# Altium footprint library TC264.PcbLib: 48 footprints (part 3 of 3)
Each footprint in its own frame and in the unit in brackets; x right, y up, seen from the top. Pads: shape width x height; smd on the part's side, far side on the other; paste and mask are expansions set on the pad; w line width, h text height; cw(c..) or ccw(c..) is an arc to the next point about the centre after c.
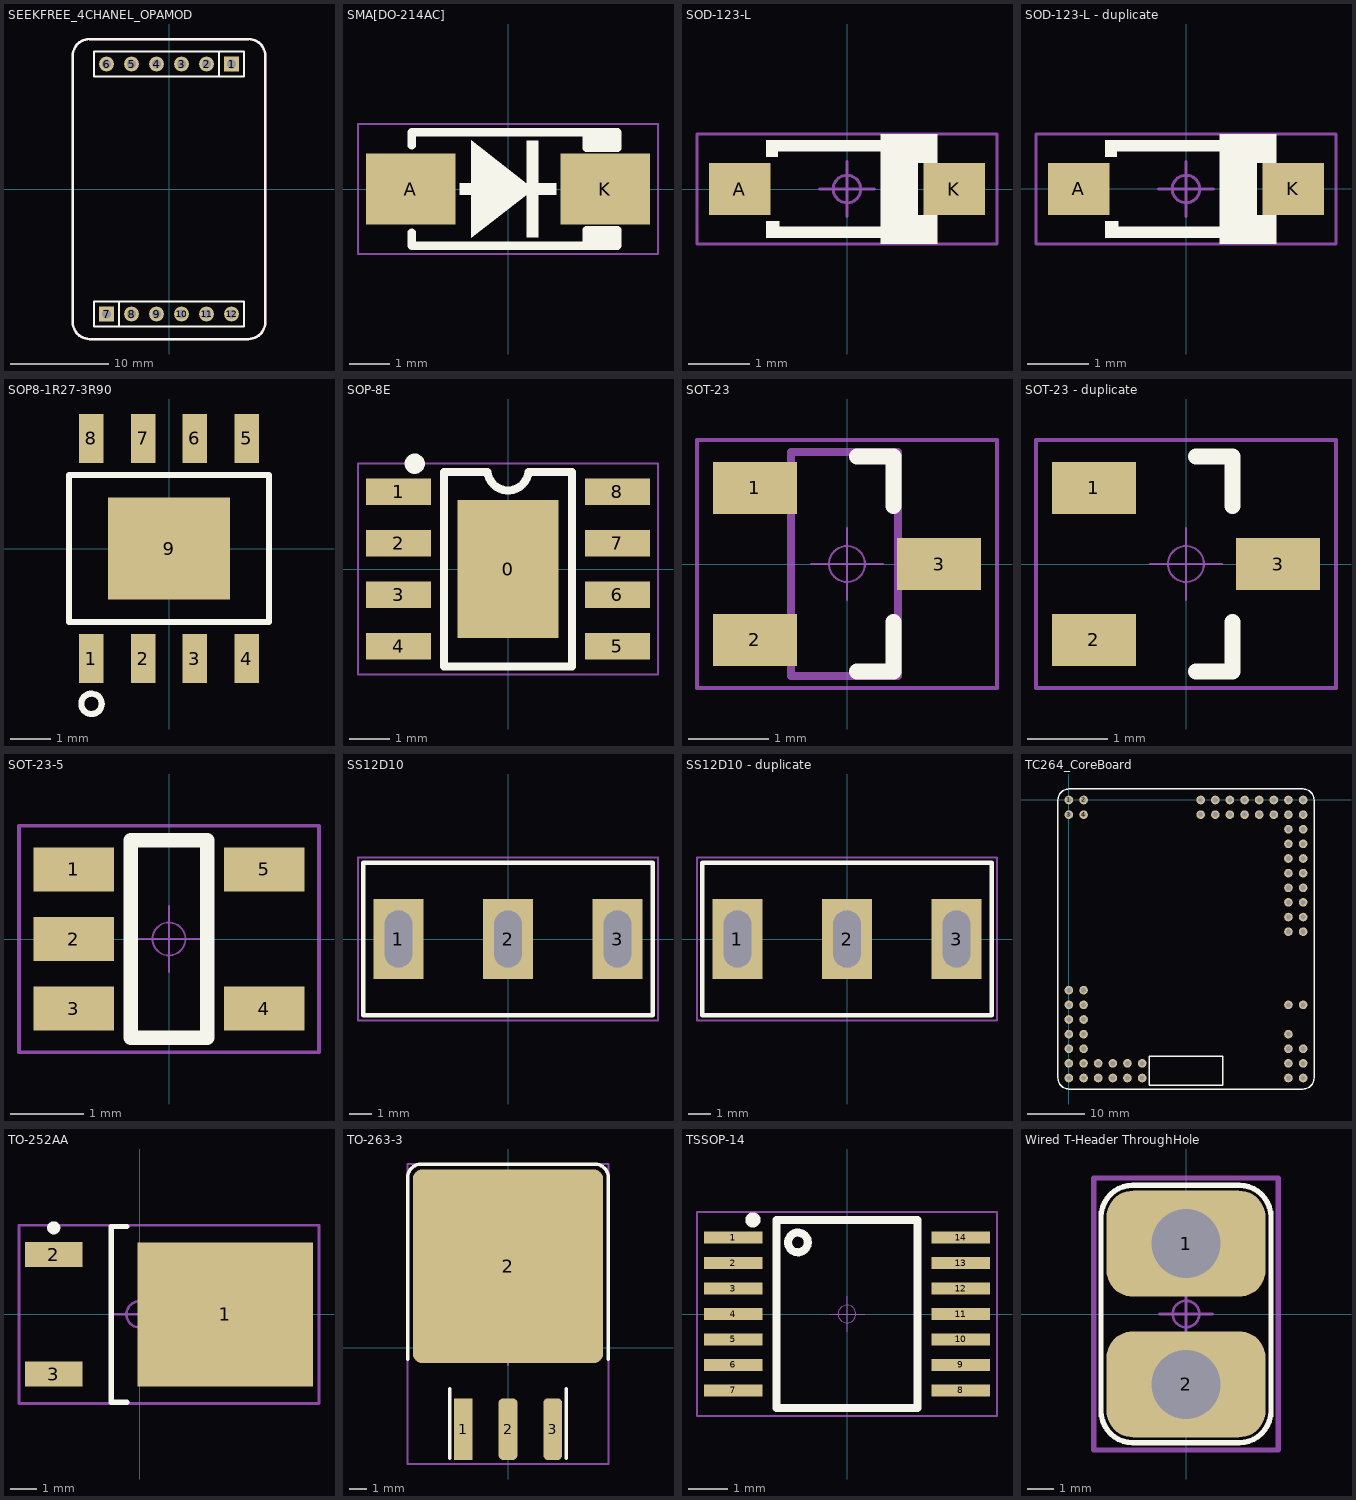
[diagram p2: the footprints below, top view; thin cyan lines are the x and y axes]

## SEEKFREE_4CHANEL_OPAMOD [mm]
pads (12):
  rect 1.5x1.5 hole 0.9: 1(6.35,12.7) 7(-6.35,-12.7)
  round 1.5 hole 0.9: 2(3.81,12.7) 3(1.27,12.7) 4(-1.27,12.7) 5(-3.81,12.7) 6(-6.35,12.7) 8(-3.81,-12.7) 9(-1.27,-12.7) 10(1.27,-12.7) 11(3.81,-12.7) 12(6.35,-12.7)
Top Overlay:
  lines w0.2: -5.1,-13.95 -5.1,-11.45 ; 5.1,11.45 5.1,13.95 ; -7.62,-13.97 -7.62,-11.43 7.62,-11.43 7.62,-13.97 -7.62,-13.97 ; -7.62,11.43 -7.62,13.97 7.62,13.97 7.62,11.43 -7.62,11.43
Top Overlay keep-out:
  lines w0.254: -9.779,-13.524 ccw(c-8.063,-13.524) -8.063,-15.24 8.063,-15.24 ccw(c8.063,-13.524) 9.779,-13.524 9.779,13.524 ccw(c8.063,13.524) 8.063,15.24 -8.063,15.24 ccw(c-8.063,13.524) -9.779,13.524 -9.779,-13.524
Top Designator:
  text ".Designator" at -2.253,12.474 h1
3D body "Female-Header-2.54-Single-6.stp": height 8.5, standoff -3.2, extent -7.743,11.475 7.747,13.975
3D body "Female-Header-2.54-Single-6.stp": height 8.5, standoff -3.2, extent -7.747,-13.975 7.743,-11.475
3D body "1001-6.STEP": height 8.54, standoff -3, extent -7.62,-13.97 7.62,-11.43
3D body "1001-6.STEP": height 8.54, standoff -3, extent -7.62,11.43 7.62,13.97

## SMA[DO-214AC] [mm] "Molded Diode, 2-Leads, Body 5.00x2.49mm, IPC Medium Density"
height 2.31
pads (2):
  rect 2.2x1.75 smd: A(-2.4,0) K(2.4,0)
Top Overlay:
  rectangle: -1.2,-0.149 1.2,0.151
  rectangle: 0.451,-1.2 0.751,1.2
  rectangle: 1.941,0.914 2.7,1.395
  rectangle: 1.941,-1.4 2.7,-0.914
  region: -0.902,1.2 -0.902,-1.2 0.635,0
  lines w0.2: -2.375,-1.075 -2.375,-1.4 2.7,-1.4 2.7,-1.016 ; -2.375,1.075 -2.375,1.4 2.7,1.4 2.7,1.016 ; 1.941,-1.395 1.941,-1.016 ; 1.941,1.016 1.941,1.395
Top Component Outline:
  lines w0.05: -3.7,-1.6 -3.7,1.6 3.7,1.6 3.7,-1.6 -3.7,-1.6
Top Designator:
  text ".Designator" at -2.253,-0.226 h1
Top Component Center:
  circle w0.05: c0,0 r0.225
  lines w0.05: -0.45,0 0.45,0 ; 0,-0.45 0,0.45
3D body "SMA(DO-214AC).STEP": height 2.3, standoff 0, extent -2.905,-1.46 2.905,1.46

## SOD-123-L [mm] "SOD Diode;2.70mm W X 1.60mm L X 1.35mm H body"
height 1.35
pads (2):
  rect 1x0.85 smd: A(-1.75,0) K(1.75,0)
Top Overlay:
  rectangle: 0.55,-0.8 1.16,0.8
  rectangle: 0.55,-0.9 1.475,-0.697
  rectangle: -1.143,0.612 0.584,0.8
  rectangle: 0.55,0.697 1.475,0.9
  rectangle: -1.143,-0.8 0.584,-0.612
  rectangle: 1.15,0.425 1.475,0.8
  rectangle: 1.15,-0.8 1.475,-0.425
  region: -1.1,-0.525 -1.325,-0.525 -1.325,-0.8 -1.1,-0.8
  region: -1.125,0.8 -1.325,0.8 -1.325,0.525 -1.125,0.525
Top Component Outline:
  lines w0.05: -2.45,-0.9 -2.45,0.9 2.45,0.9 2.45,-0.9 -2.45,-0.9
Top Designator:
  text ".Designator" at 2.253,0.226 h1
Top Component Center:
  circle w0.05: c0,0 r0.225
  lines w0.05: -0.45,0 0.45,0 ; 0,-0.45 0,0.45
3D body "SOD-123.STEP": height 1.2, standoff 0, extent -1.85,-0.8 1.85,0.8

## SOD-123-L - duplicate [mm] "SOD Diode;2.70mm W X 1.60mm L X 1.35mm H body"
height 1.35
pads (2):
  rect 1x0.85 smd: A(-1.75,0) K(1.75,0)
Top Overlay:
  region: -1.125,0.8 -1.325,0.8 -1.325,0.525 -1.125,0.525
  region: -1.1,-0.525 -1.325,-0.525 -1.325,-0.8 -1.1,-0.8
  rectangle: 1.15,-0.8 1.475,-0.425
  rectangle: 1.15,0.425 1.475,0.8
  rectangle: -1.143,-0.8 0.584,-0.612
  rectangle: 0.55,0.697 1.475,0.9
  rectangle: -1.143,0.612 0.584,0.8
  rectangle: 0.55,-0.9 1.475,-0.697
  rectangle: 0.55,-0.8 1.16,0.8
Top Component Outline:
  lines w0.05: -2.45,-0.9 2.45,-0.9 2.45,0.9 -2.45,0.9 -2.45,-0.9
Top Designator:
  text ".Designator" at -2.253,-0.226 h1
Top Component Center:
  circle w0.05: c0,0 r0.225
  lines w0.05: -0.45,0 0.45,0 ; 0,-0.45 0,0.45
3D body "SOD-123.STEP": height 1.2, standoff 0, extent -1.85,-0.8 1.85,0.8

## SOP8-1R27-3R90 [mm]
pads (9):
  rect 0.6x1.2 smd: 1(-1.905,-2.7) 2(-0.635,-2.7) 3(0.635,-2.7) 4(1.905,-2.7) 5(1.905,2.7) 6(0.635,2.7) 7(-0.635,2.7) 8(-1.905,2.7)
  rect 3x2.5 smd: 9(0,0)
Top Overlay:
  circle w0.15: c-1.901,-3.81 r0.25
  lines w0.15: -2.45,-1.8 2.45,-1.8 2.45,1.8 -2.45,1.8 -2.45,-1.8

## SOP-8E [mm] "SOIC,1.27mm pitch;8 pin,3.90mm W X 4.88mm L X 1.73mm H body"
pads (9):
  rect 2.5x3.4 smd: 0(0,0)
  rect 1.6x0.65 smd: 1(-2.7,1.905) 2(-2.7,0.635) 3(-2.7,-0.635) 4(-2.7,-1.905) 5(2.7,-1.905) 6(2.7,-0.635) 7(2.7,0.635) 8(2.7,1.905)
Top Overlay:
  circle w0.25: c-2.3,2.6 r0.125
  lines w0.2: -0.508,2.4 -1.575,2.4 -1.575,-2.4 1.575,-2.4 1.575,2.4 0.508,2.4 ; -0.505,2.399 ccw(c0,2.45) 0.505,2.399
Top Component Outline:
  lines w0.05: -3.7,-2.6 -3.7,2.6 3.7,2.6 3.7,-2.6 -3.7,-2.6
Top Designator:
  text ".Designator" at -2.253,-0.113 h1
Top Component Center:
  circle w0.05: c0,0 r0.35
  lines w0.05: -0.5,0 0.5,0 ; 0,-0.5 0,0.5
3D body "SOIC8.STEP": height 1.75, standoff 0, extent -3.105,-2.45 3.105,2.45

## SOT-23 [mm] "SOT23, 3-Leads, Body 2.90x2.40mm, Pitch 0.95mm, IPC Medium Density"
height 1.1
pads (3):
  rect 1.05x0.65 smd: 1(-1.15,0.95) 2(-1.15,-0.95) 3(1.15,0)
Top Overlay:
  lines w0.2: 0.127,-1.346 0.584,-1.346 0.584,-0.725 ; 0.127,1.346 0.584,1.346 0.584,0.725
Top Component Outline:
  lines w0.05: -1.875,-1.55 1.875,-1.55 1.875,1.55 -1.875,1.55 -1.875,-1.55
Top Designator:
  text ".Designator" at -0.226,2.253 h1
Mechanical 13:
  lines w0.1: -0.7,-1.397 0.635,-1.397 0.635,1.397 -0.7,1.397 -0.7,-1.397
Top Component Center:
  circle w0.025: c0,0 r0.225
  lines w0.025: -0.45,0 0.45,0 ; 0,-0.45 0,0.45
3D body "SOT-23-3P.STEP": height 1.2, standoff 0, extent -1.4,-1.45 1.4,1.45

## SOT-23 - duplicate [mm] "SOT23, 3-Leads, Body 2.90x2.40mm, Pitch 0.95mm, IPC Medium Density"
height 1.1
pads (3):
  rect 1.05x0.65 smd: 1(-1.15,0.95) 2(-1.15,-0.95) 3(1.15,0)
Top Overlay:
  lines w0.2: 0.127,-1.346 0.584,-1.346 0.584,-0.725 ; 0.127,1.346 0.584,1.346 0.584,0.725
Top Component Outline:
  lines w0.05: -1.875,-1.55 -1.875,1.55 1.875,1.55 1.875,-1.55 -1.875,-1.55
Top Designator:
  text ".Designator" at -2.253,-0.226 h1
Top Component Center:
  circle w0.025: c0,0 r0.225
  lines w0.025: -0.45,0 0.45,0 ; 0,-0.45 0,0.45
3D body "SOT-23-3P.STEP": height 1.2, standoff 0, extent -1.4,-1.45 1.4,1.45

## SOT-23-5 [mm] "SOT23, 5-Leads, Body 2.92x2.79mm, Pitch 0.95mm, IPC Medium Density"
height 1.42
pads (5):
  rect 1.1x0.6 smd: 1(-1.3,0.95) 2(-1.3,0) 3(-1.3,-0.95) 4(1.3,-0.95) 5(1.3,0.95)
Top Overlay:
  lines w0.2: -0.525,-1.35 -0.525,1.35 0.525,1.35 0.525,-1.35 -0.525,-1.35
Top Component Outline:
  lines w0.05: -2.05,-1.55 -2.05,1.55 2.05,1.55 2.05,-1.55 -2.05,-1.55
Top Designator:
  text ".Designator" at -2.253,-0.226 h1
Top Component Center:
  circle w0.025: c0,0 r0.225
  lines w0.025: -0.45,0 0.45,0 ; 0,-0.45 0,0.45
3D body "SOT-5.stp": height 1.08, standoff -0.01, extent -1.423,-1.461 1.422,1.46

## SS12D10 [mm] "拨动开关，直脚，脚距4.8"
pads (3):
  rect 2.2x3.5 hole 1.2 slot 2.5 at 90 deg mask+0.07: 1(-4.8,0) 2(0,0) 3(4.8,0)
Top Overlay:
  lines w0.2: -6.35,-3.35 6.35,-3.35 6.35,3.35 -6.35,3.35 -6.35,-3.3
Top Component Outline:
  lines w0.1: -6.575,-3.575 -6.575,3.575 6.575,3.575 6.575,-3.575 -6.575,-3.575
Top Designator:
  text ".Designator" at -2.253,-0.138 h1
Top Component Center:
  circle w0.1: c0,0 r0.5
  lines w0.1: -1,0 1,0 ; 0,-1 0,1
3D body "ms-13aap1.stp": height 12.5, standoff -5.4, extent -6.4,-3.3 6.35,3.8

## SS12D10 - duplicate [mm] "拨动开关，直脚，脚距4.8"
height 0.6
pads (3):
  rect 2.2x3.5 hole 1.2 slot 2.5 at 90 deg mask+0.07: 1(-4.8,0) 2(0,0) 3(4.8,0)
Top Overlay:
  lines w0.2: -6.35,-3.35 6.35,-3.35 6.35,3.35 -6.35,3.35 -6.35,-3.3
Top Component Outline:
  lines w0.1: -6.575,-3.575 -6.575,3.575 6.575,3.575 6.575,-3.575 -6.575,-3.575
Top Designator:
  text ".Designator" at -2.253,-0.138 h1
Top Component Center:
  circle w0.1: c0,0 r0.5
  lines w0.1: -1,0 1,0 ; 0,-1 0,1
3D body "ms-13aap1.stp": height 12.5, standoff -5.4, extent -6.4,-3.3 6.35,3.8

## TC264_CoreBoard [mm] "逐飞科技TC264核心板"
height 0.8
pads (67):
  round 1.5 hole 0.9: 1(0,0) 2(2.54,0) 3(0,-2.54) 4(2.54,-2.54) 27(0,-33.02) 28(2.54,-33.02) 29(0,-35.56) 30(2.54,-35.56) 31(0,-38.1) 32(2.54,-38.1) 33(0,-40.64) 34(2.54,-40.64) 35(0,-43.18) 36(2.54,-43.18) 37(0,-45.72) 38(2.54,-45.72) 39(0,-48.26) 40(2.54,-48.26) 41(5.08,-48.26) 42(5.08,-45.72) 43(7.62,-48.26) 44(7.62,-45.72) 45(10.16,-48.26) 46(10.16,-45.72) 47(12.7,-48.26) 48(12.7,-45.72) 57(38.1,-48.26) 58(40.64,-48.26) 59(38.1,-45.72) 60(40.64,-45.72) 61(38.1,-43.18) 62(40.64,-43.18) 63(38.1,-40.64) 67(38.1,-35.56) 68(40.64,-35.56) 77(38.1,-22.86) 78(40.64,-22.86) 79(38.1,-20.32) 80(40.64,-20.32) 81(38.1,-17.78) 82(40.64,-17.78) 83(38.1,-15.24) 84(40.64,-15.24) 85(38.1,-12.7) 86(40.64,-12.7) 87(38.1,-10.16) 88(40.64,-10.16) 89(38.1,-7.62) 90(40.64,-7.62) 91(38.1,-5.08) 92(40.64,-5.08) 93(38.1,-2.54) 94(40.64,-2.54) 95(38.1,0) 96(40.64,0) 97(35.56,-2.54) 98(35.56,0) 99(33.02,-2.54) 100(33.02,0) 101(30.48,-2.54) 102(30.48,0) 103(27.94,-2.54) 104(27.94,0) 105(25.4,-2.54) 106(25.4,0) 107(22.86,-2.54) 108(22.86,0)
Top Overlay:
  lines w0.254: -1.905,-48.26 ccw(c0,-48.26) 0,-50.165 40.64,-50.165 ccw(c40.64,-48.26) 42.545,-48.26 42.545,0 ccw(c40.64,0) 40.64,1.905 0,1.905 ccw(c0,0) -1.905,0 -1.905,-48.26 ; 13.97,-49.53 13.97,-44.45 26.67,-44.45 26.67,-49.53 13.97,-49.53

## TO-252AA [mm] "D-PAK, 4-Leads, Body 6.1x6.5mm, Pitch 2.28mm, Lead Span 9.8mm, IPC Low Density"
height 2.38
pads (3):
  rect 6.7x5.5 smd: 1(3.275,0)
  rect 2.2x0.95 smd: 2(-3.275,2.28) 3(-3.275,-2.28)
Top Overlay:
  circle w0.25: c-3.275,3.305 r0.125
  lines w0.2: -0.475,-3.35 -1.075,-3.35 -1.075,3.35 -0.475,3.35
Top Component Outline:
  lines w0.1: -4.6,-3.4 6.85,-3.4 6.85,3.4 -4.6,3.4 -4.6,-3.4
Top Designator:
  text ".Designator" at -1.128,-0.173 h1
Top Component Center:
  circle w0.1: c0,0 r0.5
  lines w0.1: -1,0 1,0 ; 0,-1 0,1
3D body "User Library-DPAK-1.STEP": height 2.39, standoff -0.02, extent -3.775,-3.27 6.163,3.27

## TO-263-3 [mm]
pads (4):
  rect 1.07x3.5 smd: 1(-2.54,-4.623)
  rrect50% 1.07x3.5 smd: 2(0,-4.623) 3(2.54,-4.623)
  rrect10% 10.8x11 smd: 2(0,4.623)
Top Overlay:
  lines w0.2: -5.7,-0.657 -5.7,9.65 cw(c-4.934,9.65) -4.934,10.416 4.934,10.416 cw(c4.934,9.65) 5.7,9.65
  lines w0.203: -3.302,-6.274 -3.302,-2.334 ; 3.302,-6.274 3.302,-2.334 ; 5.7,-0.657 5.7,9.65
Top Component Outline:
  lines w0.1: -5.7,-6.6 5.7,-6.6 5.7,10.425 -5.7,10.425 -5.7,-6.6
Top Designator:
  text ".Designator" at -2.252,1.707 h1
Top Component Center:
  circle w0.1: c0,0 r0.5
  lines w0.1: -1,0 1,0 ; 0,-1 0,1
3D body "D2PAK TO-263-3.step": height 4.87, standoff 0, extent -5.08,-5.389 5.08,8.841

## TSSOP-14 [mm] "TSSOP 14pin 0.65mm间距"
height 0.6
pads (14):
  rect 1.5x0.3 smd mask+0.07: 1(-2.9,1.95) 2(-2.9,1.3) 3(-2.9,0.65) 4(-2.9,0) 5(-2.9,-0.65) 6(-2.9,-1.3) 7(-2.9,-1.95) 8(2.9,-1.95) 9(2.9,-1.3) 10(2.9,-0.65) 11(2.9,0) 12(2.9,0.65) 13(2.9,1.3) 14(2.9,1.95)
Top Overlay:
  circle w0.203: c-2.4,2.4 r0.092
  circle w0.203: c-1.25,1.825 r0.251
  lines w0.2: -1.8,-2.4 -1.8,2.4 1.8,2.4 1.8,-2.4 -1.8,-2.4
Top Component Outline:
  lines w0.05: -3.825,-2.6 3.825,-2.6 3.825,2.6 -3.825,2.6 -3.825,-2.6
Top Designator:
  text ".Designator" at -2.253,-0.226 h1
Top Component Center:
  circle w0.025: c0,0 r0.225
  lines w0.025: -0.45,0 0.45,0 ; 0,-0.45 0,0.45
3D body "TSSOP14.stp": height 1.13, standoff 0, extent -3.2,-2.5 3.2,2.5

## Wired T-Header ThroughHole [mm] "带线T头直插焊盘"
pads (2):
  rrect50% 6x4 hole 2.6: 1(0,2.65) 2(0,-2.65)
Top Overlay:
  lines w0.203: -3.2,-3.65 ccw(c-2,-3.65) -2,-4.85 2,-4.85 ccw(c2,-3.65) 3.2,-3.65 3.2,3.65 ccw(c2,3.65) 2,4.85 -2,4.85 ccw(c-2,3.65) -3.2,3.65 -3.2,-3.65
Top Component Outline:
  lines w0.2: -3.475,-5.125 3.475,-5.125 3.475,5.125 -3.475,5.125 -3.475,-5.125
Top Designator:
  text ".Designator" at -2.253,-0.226 h1
Top Component Center:
  circle w0.1: c0,0 r0.5
  lines w0.1: -1,0 1,0 ; 0,-1 0,1